# Altium footprint library Earphone.PcbLib: 37 footprints (part 2 of 3)
Each footprint in its own frame and in the unit in brackets; x right, y up, seen from the top. Pads: shape width x height; smd on the part's side, far side on the other; paste and mask are expansions set on the pad; w line width, h text height; cw(c..) or ccw(c..) is an arc to the next point about the centre after c.
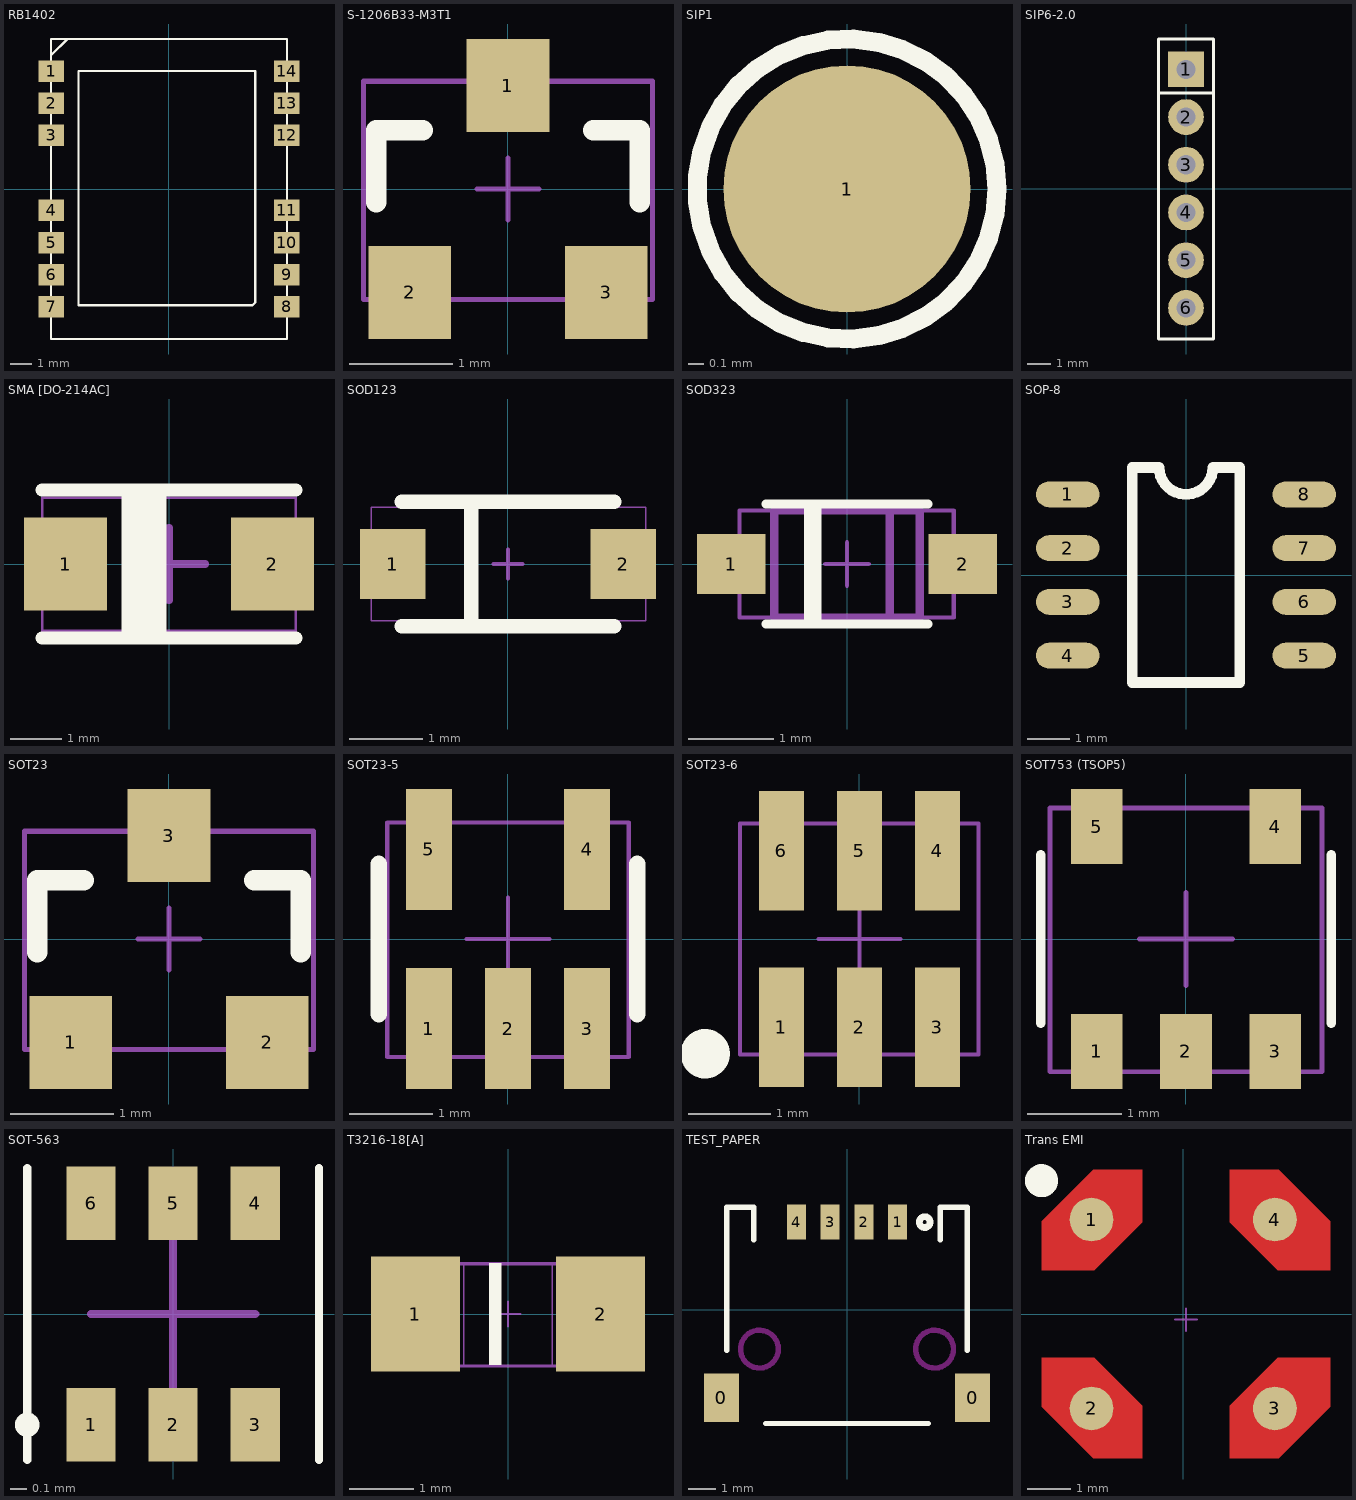
[diagram p1: the footprints below, top view; thin cyan lines are the x and y axes]

## RB1402 [mm]
pads (14):
  rect 1.2x1 smd: 1(-5.5,5.5) 2(-5.5,4) 3(-5.5,2.5) 4(-5.5,-1) 5(-5.5,-2.5) 6(-5.5,-4) 7(-5.5,-5.5) 8(5.5,-5.5) 9(5.5,-4) 10(5.5,-2.5) 11(5.5,-1) 12(5.5,2.5) 13(5.5,4) 14(5.5,5.5)
Top Overlay:
  lines w0.1: -5.5,-5.5 -5.5,-7 ; -5.5,6.25 -4.738,7 ; -5.5,-7 5.5,-7 5.5,7 -5.5,7 -5.5,5.5 -5.5,-7 ; -4.23,-5.422 3.898,-5.422 4.025,-5.295 4.025,5.5 -4.23,5.5 -4.23,-5.422

## S-1206B33-M3T1 [mm]
pads (3):
  rect 0.8x0.9 smd: 1(0,1) 2(-0.95,-1) 3(0.95,-1)
Top Overlay:
  lines w0.2: -1.275,-0.127 -1.275,0.567 -0.825,0.567 ; 0.825,0.567 1.275,0.567 1.275,-0.127
Mechanical 13:
  lines w0.05: -1.397,-1.067 1.397,-1.067 1.397,1.041 -1.346,1.041 -1.397,1.041 -1.397,-1.067
Mechanical 15:
  lines w0.05: -0.3,0 0,0 ; 0,-0.3 0,0 ; 0,0.3 0,0 ; 0.3,0 0,0
3D body: height 0.9, standoff 0, extent -1.397,-1.067 1.403,1.033

## SIP1 [mm]
pads (1):
  round 1.65 smd: 1(0,0)
Top Overlay:
  circle w0.127: c0,0 r1

## SIP6-2.0 [mm]
pads (6):
  rect 1.5x1.5 hole 0.8: 1(0,5)
  round 1.5 hole 0.8: 2(0,3) 3(0,1) 4(0,-1) 5(0,-3) 6(0,-5)
Top Overlay:
  lines w0.127: -1.143,-6.303 1.143,-6.303 1.143,6.27 -1.143,6.27 -1.143,-6.278 ; -1.143,4 1.143,4

## SMA [DO-214AC] [mm]
pads (2):
  rect 1.6x1.8 smd: 1(-2,0) 2(2,0)
Top Overlay:
  rectangle: -0.914,-1.45 -0.051,1.45
  lines w0.254: -2.45,-1.432 2.45,-1.432 ; -2.45,1.432 2.45,1.432
Mechanical 13:
  lines w0.05: -2.45,-1.295 -2.45,1.28 2.45,1.28 2.45,-1.295 -2.45,-1.295
Mechanical 15:
  lines w0.15: -0.711,0 0.7,0 ; 0,-0.7 0,0.7
3D body: height 2.39, standoff 0.1, extent -2.45,-1.295 2.45,1.28

## SOD123 [mm]
pads (2):
  rect 0.9x0.95 smd: 1(-1.575,0) 2(1.575,0)
Top Overlay:
  lines w0.2: -1.45,-0.85 1.45,-0.85 ; -1.45,0.85 1.45,0.85 ; -0.5,-0.85 -0.5,0.85
Mechanical 13:
  lines w0.02: -1.87,-0.775 1.88,-0.775 1.88,0.775 -1.87,0.775 -1.87,-0.775
Mechanical 15:
  lines w0.05: -0.203,0 0.2,0 ; 0,-0.2 0,0.2
3D body: height 1.15, standoff 0, extent -1.87,-0.775 1.88,0.775

## SOD323 [mm]
pads (2):
  rect 0.8x0.7 smd: 1(-1.35,0) 2(1.35,0)
Top Overlay:
  rectangle: -0.5,-0.7 -0.3,0.7
  lines w0.1: -0.95,-0.7 0.95,-0.7 ; -0.95,0.7 0.95,0.7
Mechanical 13:
  lines w0.05: -1.255,-0.625 -1.255,0.625 1.245,0.625 1.245,-0.625 -1.255,-0.625
Mechanical 15:
  lines w0.05: -0.254,0 0.254,0 ; 0,-0.254 0,0.254
  lines w0.1: 0.5,-0.625 0.5,0.625 ; -0.85,-0.625 0.85,-0.625 0.85,0.625 -0.85,0.625 -0.85,-0.625
3D body: height 1.1, standoff 0, extent -1.255,-0.625 1.245,0.625

## SOP-8 [mil]
pads (8):
  oval 59.06x24 smd: 1(-110,75) 2(-110,25) 3(-110,-25) 4(-110,-75) 5(110,-75) 6(110,-25) 7(110,25) 8(110,75)
Top Overlay:
  lines w10: -50,-100 -50,100 -25,100 ccw(c0,100) 25,100 50,100 50,-100 -50,-100

## SOT23 [mm]
pads (3):
  rect 0.8x0.9 smd: 1(-0.95,-1) 2(0.95,-1) 3(0,1)
Top Overlay:
  lines w0.2: -1.275,-0.127 -1.275,0.567 -0.825,0.567 ; 0.825,0.567 1.275,0.567 1.275,-0.127
Mechanical 13:
  lines w0.05: -1.397,-1.067 1.397,-1.067 1.397,1.041 -1.346,1.041 -1.397,1.041 -1.397,-1.067
Mechanical 15:
  lines w0.05: -0.3,0 0,0 ; 0,-0.3 0,0 ; 0,0.3 0,0 ; 0.3,0 0,0
3D body: height 0.9, standoff 0, extent -1.397,-1.067 1.403,1.033

## SOT23-5 [mm]
pads (5):
  rect 0.55x1.45 smd: 1(-0.95,-1.075) 2(0,-1.075) 3(0.95,-1.075) 4(0.95,1.075) 5(-0.95,1.075)
Top Overlay:
  lines w0.2: -1.55,-0.9 -1.55,0.9 ; 1.55,-0.9 1.55,0.9
Mechanical 13:
  lines w0.05: -1.45,-1.417 1.45,-1.417 1.45,1.397 -1.45,1.397 -1.45,-1.417
Mechanical 15:
  lines w0.05: -0.5,0 0.5,0 ; 0,-0.5 0,0.5
3D body: height 1.1, standoff 0.05, extent -1.45,-1.417 1.45,1.397

## SOT23-6 [mm]
pads (6):
  rect 0.55x1.45 smd: 1(-0.95,-1.075) 2(0,-1.075) 3(0.95,-1.075) 4(0.95,1.075) 5(0,1.075) 6(-0.95,1.075)
Top Overlay:
  circle w0.4: c-1.878,-1.397 r0.1
Mechanical 13:
  lines w0.05: -1.452,-1.407 -1.452,1.407 1.448,1.407 1.448,-1.407 -1.452,-1.407
Mechanical 15:
  lines w0.05: -0.5,0 0.5,0 ; 0,-0.5 0,0.5
3D body: height 1.05, standoff 0, extent -1.452,-1.407 1.448,1.407

## SOT753 (TSOP5) [mm]
pads (5):
  rect 0.55x0.8 smd: 1(-0.95,-1.2) 2(0,-1.2) 3(0.95,-1.2) 4(0.95,1.2) 5(-0.95,1.2)
Top Overlay:
  lines w0.1: -1.55,-0.9 -1.55,0.9 ; 1.55,-0.9 1.55,0.9
Mechanical 13:
  lines w0.05: -1.45,-1.417 1.45,-1.417 1.45,1.397 -1.45,1.397 -1.45,-1.417
Mechanical 15:
  lines w0.05: -0.5,0 0.5,0 ; 0,-0.5 0,0.5
3D body: height 1.1, standoff 0.05, extent -1.45,-1.417 1.45,1.397

## SOT-563 [mm]
pads (6):
  rect 0.3x0.45 smd: 1(-0.5,-0.675) 2(0,-0.675) 3(0.5,-0.675) 4(0.5,0.675) 5(0,0.675) 6(-0.5,0.675)
Top Overlay:
  circle w0.05: c-0.889,-0.675 r0.01
  circle w0.05: c-0.889,-0.675 r0.05
  lines w0.05: -0.889,-0.889 -0.889,0.889 ; 0.889,-0.889 0.889,0.889
Mechanical 15:
  lines w0.05: -0.5,0 0.5,0 ; 0,-0.5 0,0.5

## T3216-18[A] [mm]
pads (2):
  rect 1.4x1.8 smd: 1(-1.45,0) 2(1.45,0)
Top Overlay:
  rectangle: -0.3,-0.8 -0.1,0.8
Mechanical 13:
  lines w0.05: -1.6,-0.813 1.6,-0.813 1.6,0.787 -1.6,0.787 -1.6,-0.813
Mechanical 15:
  lines w0.025: -0.696,-0.8 -0.696,0.8 ; -0.2,0 0,0 ; 0,-0.2 0,0 ; 0,0.2 0,0 ; 0.2,0 0,0 ; 0.696,-0.8 0.696,0.8 ; -1.6,-0.8 1.6,-0.8 1.6,0.8 -1.6,0.8 -1.6,-0.8
  text "+" at -1.397,-0.508 h1.5
  text "-" at 0.889,-0.381 h1.5
3D body: height 1.62, standoff 0.01, extent -1.6,-0.813 1.6,0.787

## TEST_PAPER [mm]
pads (6):
  rect 1.3x1.8 smd: 0(-4.65,-3.25) 0(4.65,-3.25)
  rect 0.7x1.3 smd: 1(1.875,3.25) 2(0.625,3.25) 3(-0.625,3.25) 4(-1.875,3.25)
Top Overlay:
  circle w0.25: c2.875,3.25 r0.2
  lines w0.2: -4.45,-1.5 -4.45,3.8 -3.45,3.8 -3.45,2.6 ; -3,-4.2 3,-4.2 ; 3.45,2.6 3.45,3.8 4.45,3.8 4.45,-1.5
Keep-Out Layer:
  circle w0.2: c3.24,-1.45 r0.7
  circle w0.2: c-3.24,-1.45 r0.7

## Trans EMI [mm]
pads (4):
  round 1 smd: 1(-2.095,2.159) 2(-2.095,-2.159) 3(2.095,-2.159) 4(2.095,2.159)
Top Layer:
  region: -3.237,1 -3.237,2.125 -2.061,3.3 -0.937,3.3 -0.937,2.1 -2.037,1
  region: -3.237,-2.125 -2.061,-3.3 -0.937,-3.3 -0.937,-2.1 -2.037,-1 -3.237,-1
  region: 1.064,-3.3 1.064,-2.1 2.164,-1 3.364,-1 3.364,-2.125 2.188,-3.3
  region: 1.064,2.1 2.164,1 3.364,1 3.364,2.125 2.188,3.3 1.064,3.3
Top Overlay:
  circle w0.5: c-3.238,3.048 r0.127
Top Paste:
  region: 1.064,-3.3 1.064,-2.1 2.164,-1 3.364,-1 3.364,-2.125 2.188,-3.3
  region: -3.237,-2.125 -2.061,-3.3 -0.937,-3.3 -0.937,-2.1 -2.037,-1 -3.237,-1
  region: 1.064,2.1 2.164,1 3.364,1 3.364,2.125 2.188,3.3 1.064,3.3
  region: -3.237,1 -3.237,2.125 -2.061,3.3 -0.937,3.3 -0.937,2.1 -2.037,1
Top Solder:
  region: 2.222,-3.429 3.492,-2.159 3.492,-0.889 2.095,-0.889 0.953,-2.032 0.953,-3.429
  region: -2.095,3.429 -3.365,2.159 -3.365,0.889 -1.968,0.889 -0.826,2.032 -0.826,3.429
  region: 3.492,2.159 2.222,3.429 0.953,3.429 0.953,2.032 2.095,0.889 3.492,0.889
  region: -3.365,-2.159 -2.095,-3.429 -0.826,-3.429 -0.826,-2.032 -1.968,-0.889 -3.365,-0.889
Mechanical 15:
  lines w0.05: -0.191,-0.127 0.318,-0.127 ; 0.064,-0.381 0.064,0.127